# Altium footprint library 开发板设计库封装.PcbLib: 59 footprints (part 3 of 4)
Each footprint in its own frame and in the unit in brackets; x right, y up, seen from the top. Pads: shape width x height; smd on the part's side, far side on the other; paste and mask are expansions set on the pad; w line width, h text height; cw(c..) or ccw(c..) is an arc to the next point about the centre after c.
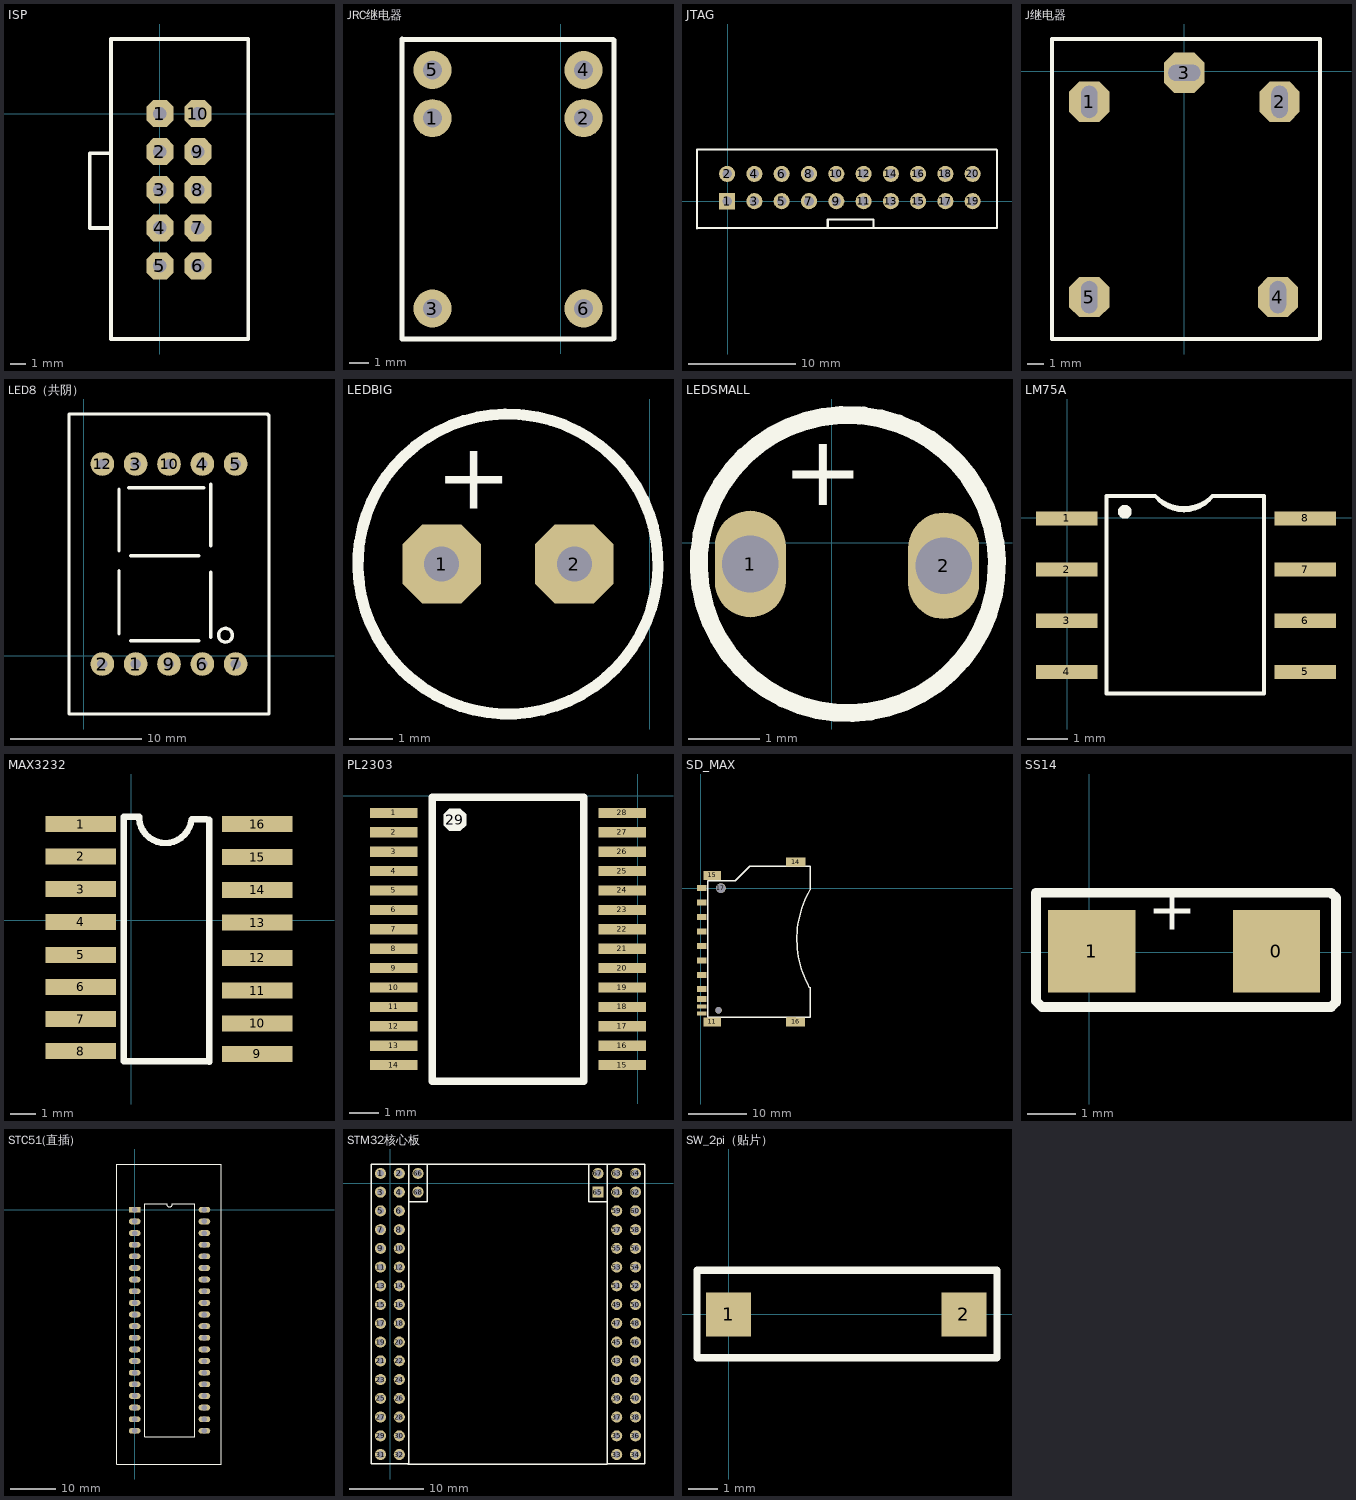
[diagram p2: the footprints below, top view; thin cyan lines are the x and y axes]

## ISP [mil]
pads (10):
  oct 70x70 hole 35 mask+1.97: 1(0,0) 2(0,-98.43) 3(0,-196.85) 4(0,-295.28) 5(0,-393.7) 6(98.43,-393.7) 7(98.43,-295.28) 8(98.43,-196.85) 9(98.43,-98.43) 10(98.43,0)
Top Overlay:
  lines w10: -129.92,-102.36 -181.1,-102.36 -181.1,-295.28 -125.98,-295.28 ; -125.98,-582.68 228.35,-582.68 228.35,192.91 -125.98,192.91 -125.98,-582.68

## JRC继电器 [mm]
pads (6):
  round 2 hole 1: 1(-6.75,-29.115) 2(1.2,-29.115) 3(-6.75,-39.125) 4(1.2,-26.575) 5(-6.75,-26.575) 6(1.2,-39.125)
Top Overlay:
  lines w0.254: -8.35,-40.725 2.7,-40.725 ; -8.35,-40.65 -8.35,-24.95 ; -8.25,-24.975 2.75,-24.975 ; 2.8,-40.7 2.8,-25

## JTAG [mm]
pads (20):
  rect 1.5x1.5 hole 0.9: 1(-0.071,0.027)
  round 1.5 hole 0.9: 2(-0.071,2.567) 3(2.469,0.027) 4(2.469,2.567) 5(5.009,0.027) 6(5.009,2.567) 7(7.549,0.027) 8(7.549,2.567) 9(10.089,0.027) 10(10.089,2.567) 11(12.629,0.027) 12(12.629,2.567) 13(15.169,0.027) 14(15.169,2.567) 15(17.709,0.027) 16(17.709,2.567) 17(20.249,0.027) 18(20.249,2.567) 19(22.789,0.027) 20(22.789,2.567)
Top Overlay:
  lines w0.2: -2.875,4.8 -2.875,-2.5 -2.85,-2.475 25.05,-2.475 25.05,4.775 25,4.825 -2.85,4.825 ; 9.3,-2.475 9.3,-1.675 13.55,-1.675 13.55,-2.45

## J继电器 [mm]
pads (5):
  oct 2.5x2.5 hole 1 slot 2 at 90 deg: 1(-5.9,-1.9) 2(5.9,-1.9) 4(5.8,-14) 5(-5.9,-14)
  oct 2.5x2.5 hole 1 slot 2 at 0 deg: 3(0,-0.1)
Top Overlay:
  lines w0.254: -8.2,-16.6 -8.2,2 8.4,2 8.4,-16.559 8.3,-16.6 -8.2,-16.6

## LED8（共阴） [mm]
pads (10):
  round 1.8 hole 0.8 paste+0: 1(3.965,-0.615) 2(1.425,-0.615) 3(3.965,14.625) 4(9.045,14.625) 5(11.585,14.625) 6(9.045,-0.615) 7(11.585,-0.615) 9(6.505,-0.615) 10(6.505,14.625) 12(1.425,14.625)
Top Overlay:
  lines w0.254: 2.695,1.671 2.695,6.497 ; 2.695,8.021 2.695,12.72 ; 3.435,12.825 9.15,12.825 ; 3.584,1.163 8.791,1.163 ; 3.584,7.64 8.791,7.64 ; 9.68,1.417 9.68,6.37 ; 9.68,8.402 9.68,13.101 ; 10.3,1.45 cw(c10.808,1.577) 10.338,1.347 ; -1.115,-4.425 14.125,-4.425 14.125,18.308 13.998,18.435 -1.115,18.435 -1.115,-4.425

## LEDBIG [mm]
pads (2):
  oct 1.8x1.8 hole 0.8: 1(-4.775,-5.025) 2(-1.727,-5.025)
Top Overlay:
  lines w0.254: -2.997,-1.596 ccw(c-3.251,-5.025) -2.891,-1.605
  text "+" at -4.902,-3.755 h1.52

## LEDSMALL [mm]
pads (2):
  oval 1x1.5 hole 0.8: 1(-1.15,-0.3) 2(1.575,-0.325)
Top Overlay:
  lines w0.254: 0.379,1.794 ccw(c0.224,-0.3) 0.444,1.788
  text "+" at -0.7,0.525 h1

## LM75A [mm]
pads (8):
  rect 1.524x0.35 smd: 1(-0.013,-0.012) 2(-0.013,-1.282) 3(-0.013,-2.552) 4(-0.013,-3.822) 5(5.905,-3.822) 6(5.905,-2.552) 7(5.905,-1.282) 8(5.905,-0.012)
Top Overlay:
  circle w0.2: c1.429,0.15 r0.071
  lines w0.1: 2.273,0.445 ccw(c2.895,1.068) 3.518,0.445 ; 0.978,-4.353 4.878,-4.353 4.878,0.547 3.619,0.547 cw(c2.895,1.271) 2.171,0.547 0.978,0.547 0.978,-4.353

## MAX3232 [mm]
pads (16):
  rect 2.794x0.635 smd: 1(-2,3.8) 2(-2,2.525) 3(-2,1.225) 4(-2,-0.075) 5(-2,-1.375) 6(-2,-2.65) 7(-2,-3.925) 8(-2,-5.2) 9(5,-5.3) 10(5,-4.1) 11(5,-2.8) 12(5,-1.5) 13(5,-0.1) 14(5,1.2) 15(5,2.5) 16(5,3.8)
Top Overlay:
  lines w0.254: 0.317,3.996 ccw(c1.356,4.1) 2.395,4 2.975,4 ; 0.317,4.1 -0.3,4.1 -0.3,-5.6 2.975,-5.6 ; 3.1,-5.625 3.1,3.975

## PCBComponent_1 [mm]

## PL2303 [mm]
pads (29):
  rect 1.6x0.34 smd mask+0: 1(-8.175,-0.572) 2(-8.175,-1.222) 3(-8.175,-1.872) 4(-8.175,-2.522) 5(-8.175,-3.172) 6(-8.175,-3.822) 7(-8.175,-4.472) 8(-8.175,-5.122) 9(-8.175,-5.772) 10(-8.175,-6.422) 11(-8.175,-7.072) 12(-8.175,-7.722) 13(-8.175,-8.372) 14(-8.175,-9.022) 15(-0.525,-9.022) 16(-0.525,-8.372) 17(-0.525,-7.722) 18(-0.525,-7.072) 19(-0.525,-6.422) 20(-0.525,-5.772) 21(-0.525,-5.122) 22(-0.525,-4.472) 23(-0.525,-3.822) 24(-0.525,-3.172) 25(-0.525,-2.522) 26(-0.525,-1.872) 27(-0.525,-1.222) 28(-0.525,-0.575)
  oct 0.762x0.762 on Top Overlay: 29(-6.128,-0.804)
Top Overlay:
  lines w0.254: -6.89,-9.567 -6.89,-0.042 -1.81,-0.042 -1.81,-9.567 -6.89,-9.567

## SD_MAX [mil]
pads (18):
  rect 65x40 smd: 1(7.87,-96.46) 2(7.87,-194.88) 3(7.87,-293.31) 4(7.87,-391.73) 5(7.87,-490.16) 6(7.87,-588.58) 7(7.87,-684.06) 8(7.87,-750.98) 9(7.87,1.97)
  rect 65x28 smd: 10(7.87,-802.17) 12(7.87,-849.41)
  rect 120x60 smd: 11(78.74,-907.48) 15(78.74,88.58)
  rect 60x60 smd: 13(618.11,-903.54)
  rect 130x60 smd: 14(646.65,179.13) 16(645.67,-907.48)
  round 67 hole 66: 17(137.8,1.97)
  round 44 hole 43: 18(122.05,-828.74)
Top Overlay:
  lines w10: 47.24,1.97 47.24,51.18 234.25,51.18 332.68,149.61 746.06,149.61 746.06,-7.87 ; 47.24,21.65 47.24,-874.02 746.06,-874.02 746.06,-670.6 ; 739.9,-674.03 cw(c1334.53,-343.66) 743.71,-6.53

## SS14 [mm]
pads (2):
  rect 1.8x1.7 smd: 0(3.85,0.025) 1(0.05,0.025)
Top Overlay:
  lines w0.2: -1.1,-1 -1.1,1.225 4.975,1.225 5.075,1.125 5.075,-1.025 4.975,-1.125 -0.975,-1.125 -1.1,-1
  text "+" at 1.2,0.175 h1.5

## STC51(直插) [mm]
pads (40):
  rect 2.54x1.27 hole 1.2: 1(0,0)
  oval 2.54x1.27 hole 1.2: 2(0,-2.54) 3(0,-5.08) 4(0,-7.62) 5(0,-10.16) 6(0,-12.7) 7(0,-15.24) 8(0,-17.78) 9(0,-20.32) 10(0,-22.86) 11(0,-25.4) 12(0,-27.94) 13(0,-30.48) 14(0,-33.02) 15(0,-35.56) 16(0,-38.1) 17(0,-40.64) 18(0,-43.18) 19(0,-45.72) 20(0,-48.26) 21(15.24,-48.26) 22(15.24,-45.72) 23(15.24,-43.18) 24(15.24,-40.64) 25(15.24,-38.1) 26(15.24,-35.56) 27(15.24,-33.02) 28(15.24,-30.48) 29(15.24,-27.94) 30(15.24,-25.4) 31(15.24,-22.86) 32(15.24,-20.32) 33(15.24,-17.78) 34(15.24,-15.24) 35(15.24,-12.7) 36(15.24,-10.16) 37(15.24,-7.62) 38(15.24,-5.08) 39(15.24,-2.54) 40(15.24,0)
Top Overlay:
  lines w0.254: -3.9,-55.5 -3.9,10 18.9,10 18.9,-55.5 -3.9,-55.5 ; 2.159,-49.53 2.159,1.27 6.985,1.27 ccw(c7.62,1.27) 8.255,1.27 13.081,1.27 13.081,-49.53 2.159,-49.53

## STM32核心板 [mm]
pads (68):
  round 1.5 hole 0.9: 1(-1.317,1.328) 2(1.223,1.328) 3(-1.317,-1.212) 4(1.223,-1.212) 5(-1.317,-3.752) 6(1.223,-3.752) 7(-1.317,-6.292) 8(1.223,-6.292) 9(-1.317,-8.832) 10(1.223,-8.832) 11(-1.317,-11.372) 12(1.223,-11.372) 13(-1.317,-13.912) 14(1.223,-13.912) 15(-1.317,-16.452) 16(1.223,-16.452) 17(-1.317,-18.992) 18(1.223,-18.992) 19(-1.317,-21.532) 20(1.223,-21.532) 21(-1.317,-24.072) 22(1.223,-24.072) 23(-1.317,-26.612) 24(1.223,-26.612) 25(-1.317,-29.152) 26(1.223,-29.152) 27(-1.317,-31.692) 28(1.223,-31.692) 29(-1.317,-34.232) 30(1.223,-34.232) 31(-1.317,-36.772) 32(1.223,-36.772) 33(30.687,-36.772) 34(33.227,-36.772) 35(30.687,-34.232) 36(33.227,-34.232) 37(30.687,-31.692) 38(33.227,-31.692) 39(30.687,-29.152) 40(33.227,-29.152) 41(30.687,-26.612) 42(33.227,-26.612) 43(30.687,-24.072) 44(33.227,-24.072) 45(30.687,-21.532) 46(33.227,-21.532) 47(30.687,-18.992) 48(33.227,-18.992) 49(30.687,-16.452) 50(33.227,-16.452) 51(30.687,-13.912) 52(33.227,-13.912) 53(30.687,-11.372) 54(33.227,-11.372) 55(30.687,-8.832) 56(33.227,-8.832) 57(30.687,-6.292) 58(33.227,-6.292) 59(30.687,-3.752) 60(33.227,-3.752) 61(30.687,-1.212) 62(33.227,-1.212) 63(30.687,1.328) 64(33.227,1.328) 66(3.763,1.328) 67(28.147,1.328) 68(3.763,-1.212)
  rect 1.5x1.5 hole 0.9: 65(28.147,-1.212)
Top Overlay:
  lines w0.2: 2.4,-38.05 29.375,-38.05 ; 4.925,2.6 26.95,2.6 ; 2.493,2.598 -2.587,2.598 -2.587,-38.042 2.493,-38.042 2.493,2.598 ; 2.493,2.598 5.033,2.598 5.033,-2.482 2.493,-2.482 2.493,2.598 ; 29.417,2.598 34.497,2.598 34.497,-38.042 29.417,-38.042 29.417,2.598 ; 29.417,2.598 29.417,-2.482 26.877,-2.482 26.877,2.598 29.417,2.598

## SW_2pi（贴片） [mm]
pads (2):
  rect 1.524x1.5 smd: 1(0,0) 2(8,0)
Top Overlay:
  lines w0.254: -1.075,-1.475 9.125,-1.475 9.125,1.5 -1.075,1.5 -1.075,-1.475